# Altium schematic symbol library GPS-lib.SchLib: 13 symbols
Pins are listed as number, name and electrical type; pins without a type are passive.

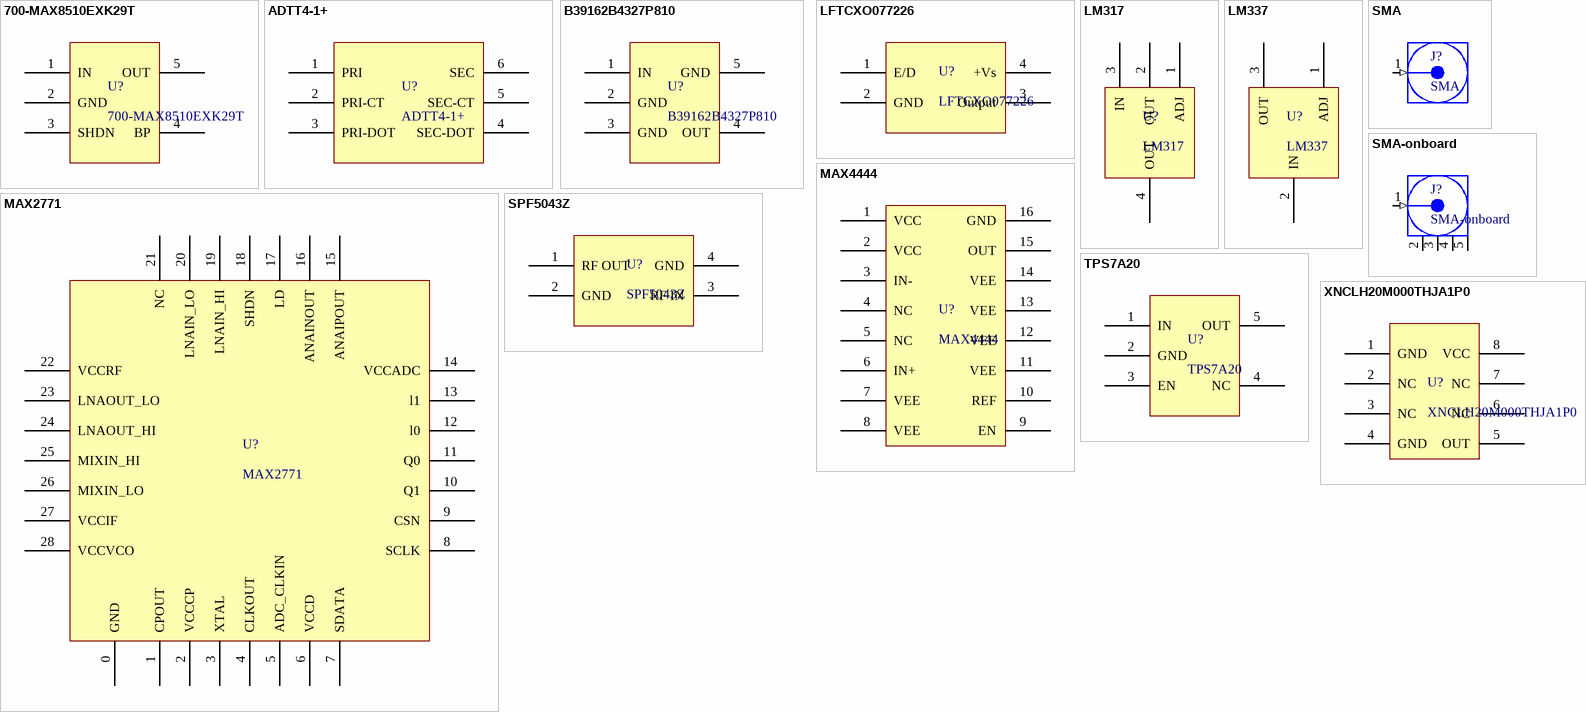
[diagram p0: symbols 700-MAX8510EXK29T to XNCLH20M000THJA1P0]

## 700-MAX8510EXK29T
designator U?
footprint SC70
pins: 1 IN, 2 GND, 3 SHDN, 4 BP, 5 OUT

## ADTT4-1+
designator U?
footprint ADTT4-1+
pins: 1 PRI, 2 PRI-CT, 3 PRI-DOT, 4 SEC-DOT, 5 SEC-CT, 6 SEC

## B39162B4327P810
designator U?
footprint B39162B4327P810
pins: 1 IN, 2 GND, 3 GND, 4 OUT, 5 GND

## LFTCXO077226
designator U?
footprint IQXT-225
pins: 1 E/D, 2 GND, 3 Output, 4 +Vs

## LM317
designator U?
footprint SOT223
pins: 1 ADJ, 2 OUT, 3 IN, 4 OUT

## LM337
designator U?
footprint D-pack
pins: 1 ADJ, 2 IN, 3 OUT

## MAX2771
designator U?
Multiband Universal GNSS Receiver
footprint MAX2771
pins: 0 GND, 1 CPOUT, 2 VCCCP, 3 XTAL, 4 CLKOUT, 5 ADC_CLKIN, 6 VCCD, 7 SDATA, 8 SCLK, 9 CSN, 10 Q1, 11 Q0, 12 l0, 13 l1, 14 VCCADC, 15 ANAIPOUT, 16 ANAINOUT, 17 LD, 18 SHDN, 19 LNAIN_HI, 20 LNAIN_LO, 21 NC, 22 VCCRF, 23 LNAOUT_LO, 24 LNAOUT_HI, 25 MIXIN_HI, 26 MIXIN_LO, 27 VCCIF, 28 VCCVCO

## MAX4444
designator U?
Differential-to-Single-Ended Line Receivers
footprint MAX4444
pins: 1 VCC, 2 VCC, 3 IN-, 4 NC, 5 NC, 6 IN+, 7 VEE, 8 VEE, 9 EN, 10 REF, 11 VEE, 12 VEE, 13 VEE, 14 VEE, 15 OUT, 16 GND

## SMA
designator J?
footprint SMA
pins: 1 Signal (in) "Signal Pin"

## SMA-onboard
designator J?
footprint SMA-onboard
pins: 1 Signal (in) "Signal Pin", 2 GND (power), 3 GND (power), 4 GND (power), 5 GND (power)

## SPF5043Z
designator U?
footprint SPF5043Z
pins: 1 RF OUT, 2 GND, 3 RF IN, 4 GND

## TPS7A20
designator U?
footprint SOT23-5
pins: 1 IN, 2 GND, 3 EN, 4 NC, 5 OUT

## XNCLH20M000THJA1P0
designator U?
footprint XNCLH20M000THJA1P0
pins: 1 GND, 2 NC, 3 NC, 4 GND, 5 OUT, 6 NC, 7 NC, 8 VCC